# Altium schematic symbol library Cypress.SchLib: 1 symbol
Pins are listed as number, name and electrical type; pins without a type are passive.

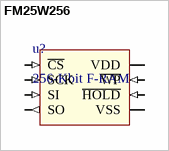
[diagram p0: symbol FM25W256]

## FM25W256
designator u?, comment 256-Kbit F-RAM
256-Kbit (32Kx8) Serial SPI F-RAM
footprint SOIC8N (SOIC8 Package, 127 Pitch, 390x490 Dimensions)
pins: 1 ~{CS} (in), 2 SO (out), 3 ~{WP} (in), 4 VSS (power), 5 SI (in), 6 SCK (in), 7 ~{HOLD} (in), 8 VDD (power)